# Altium schematic symbol library NSL-19M51.SchLib: 1 symbol
Pins are listed as number, name and electrical type; pins without a type are passive.

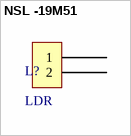
[diagram p0: symbol NSL -19M51]

## NSL -19M51
designator L?, comment LDR
footprint TO-18
pins: 1, 2